# EAGLE library part STBC08 (library dawidkulpa_dev)
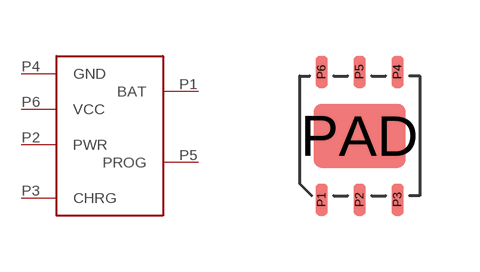
[diagram p2: symbol with the pads of DFN6-3X3; footprint DFN6-3X3]

Designator prefix -

## STBC08  [DFN6-3X3]
P1  BAT
P2  PWR
P3  CHRG
P4  GND
P5  PROG
P6  VCC

## Footprint DFN6-3X3 (pad centres in mm)
smd 0.3 x 0.8: P1 -0.95,-1.6; P2 0,-1.6; P3 0.95,-1.6; P4 0.95,1.6; P5 0,1.6; P6 -0.95,1.6
smd 2.3 x 1.6: PAD 0,0